# Altium integrated library Microchip Power Management Line Regulator.IntLib: 1174 symbols (part 11 of 31)
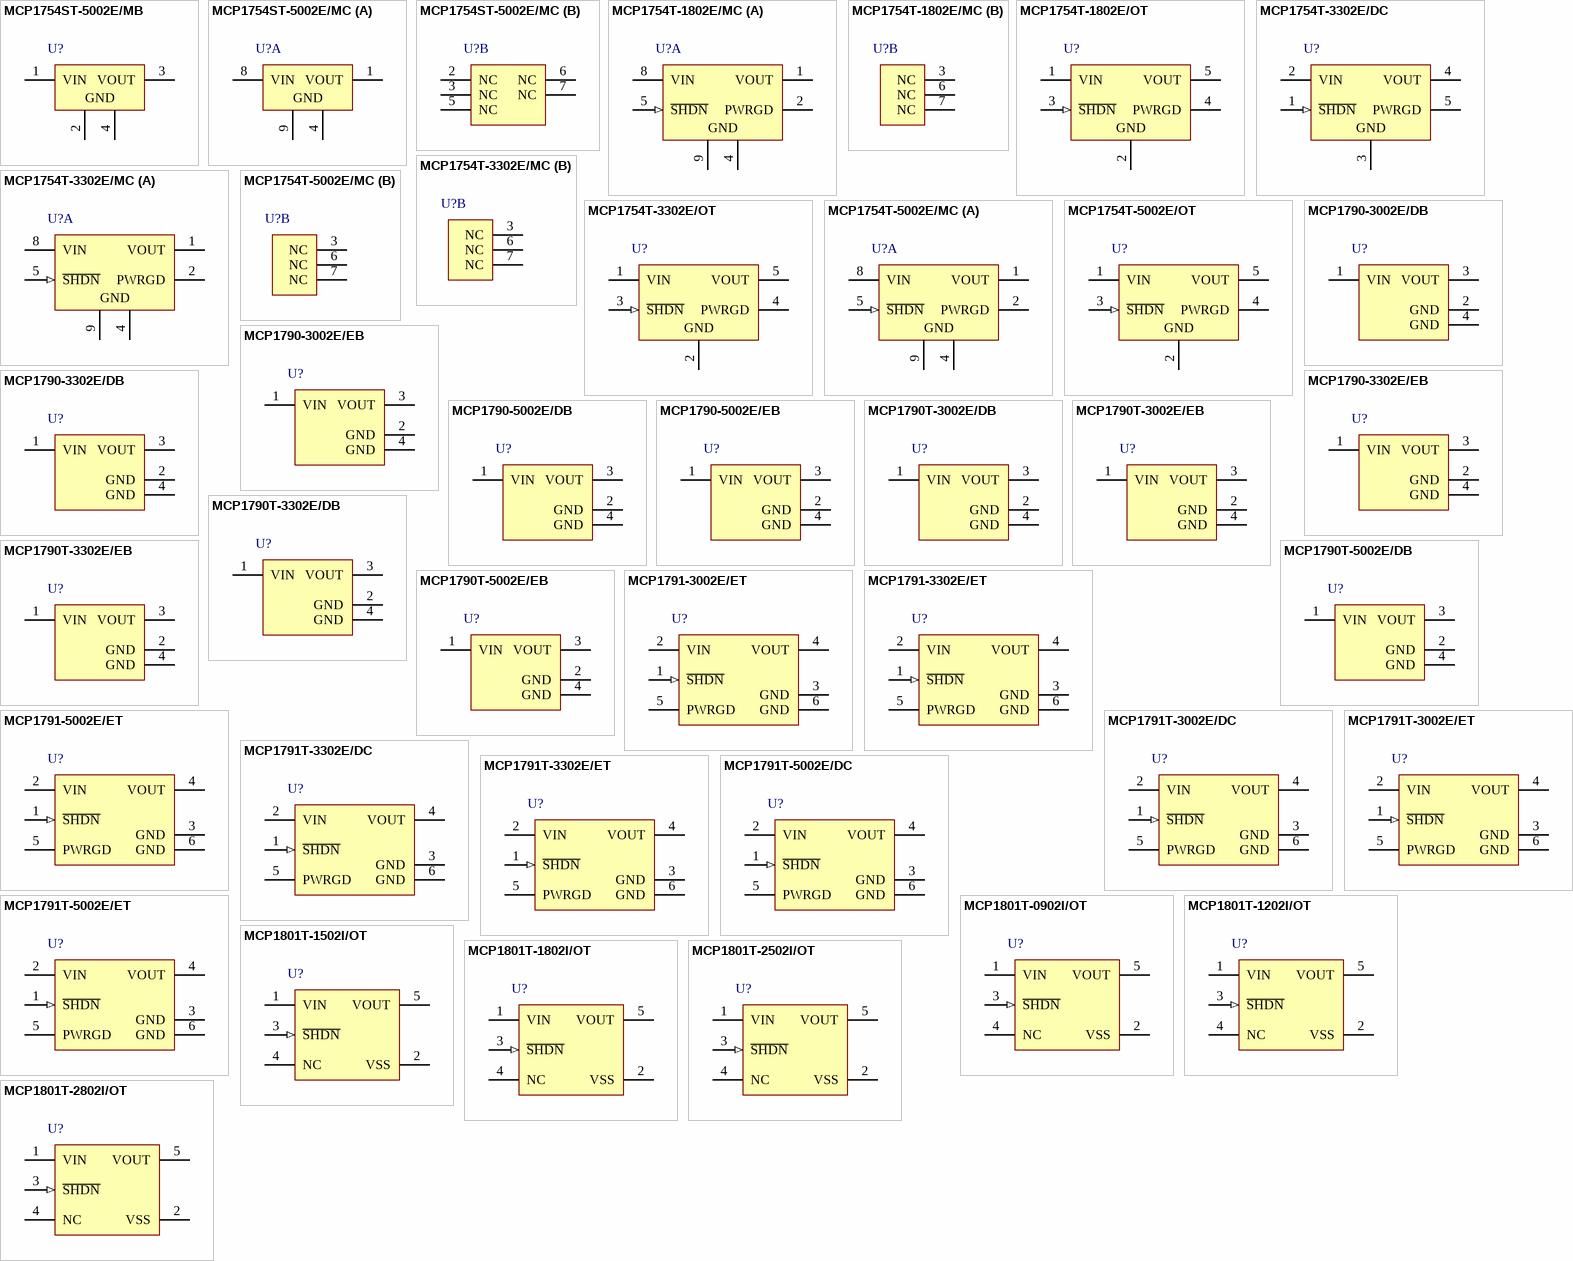
[diagram p40: symbols MCP1754ST-5002E/MB to MCP1801T-2802I/OT]

## MCP1801T-1202I/OT
designator U?
150 mA, High PSRR, Low Quiescent Current LDO, 5-Pin SOT-23, Industrial Temperature, Tape and Reel; Manufacturer: Microchip; PartNumber: MCP1801T-1202I/OT; DatasheetVersion: revC, Jan-2009; PackageVersion: revBB, Aug-2009; PackageReference: SOT-23-OT5; PackageDescription: 5-Lead Plastic Small Outline Transistor (OT) [SOT-23]; Supplier 1: Digi-Key; Supplier Part Number 1: MCP1801T-1202I/OTTR-ND; Supplier 2: Digi-Key; Supplier Part Number 2: MCP1801T-1202I/OTCT-ND; Supplier 3: Digi-Key; Supplier Part Number 3: MCP1801T-1202I/OTDKR-ND; Supplier 4: Farnell; Supplier Part Number 4: 1851980RL; Supplier 5: Farnell; Supplier Part Number 5: 1851980; Supplier 6: Newark; Supplier Part Number 6: 54M4826; Supplier 7: Newark; Supplier Part Number 7: 31T1332; Supplier 8: Mouser; Supplier Part Number 8: 579-MCP1801T-1202IOT; Mounting Technology: Surface Mount; Code_IPC: SOT23-5; ComponentLink1Description: Manufacturer URL; ComponentLink1URL: http://www.microchip.com/; ComponentLink2Description: Datasheet; ComponentLink2URL: http://ww1.microchip.com/downloads/en/DeviceDoc/22051c.pdf; ComponentLink3Description: Package Specification; ComponentLink3URL: http://www.microchip.com/stellent/groups/techpub_sg/documents/packagingspec/en012702.pdf
footprint SOT-23-OT5_N (SOT23, 5-Leads, Body 2.9x1.6mm, Pitch 0.95mm, Lead Span 2.7mm, IPC Medium Density)
footprint SOT-23-OT5_L (SOT23, 5-Leads, Body 2.9x1.6mm, Pitch 0.95mm, Lead Span 2.7mm, IPC High Density)
footprint SOT-23-OT5_M (SOT23, 5-Leads, Body 2.9x1.6mm, Pitch 0.95mm, Lead Span 2.7mm, IPC Low Density)
pins: 1 VIN (power), 2 VSS (power), 3 ~{SHDN} (in), 4 NC, 5 VOUT (power)

## MCP1801T-1502I/OT
designator U?
150 mA, High PSRR, Low Quiescent Current LDO, 5-Pin SOT-23, Industrial Temperature, Tape and Reel; Manufacturer: Microchip; PartNumber: MCP1801T-1502I/OT; DatasheetVersion: revC, Jan-2009; PackageVersion: revBB, Aug-2009; PackageReference: SOT-23-OT5; PackageDescription: 5-Lead Plastic Small Outline Transistor (OT) [SOT-23]; Mounting Technology: Surface Mount; Code_IPC: SOT23-5; ComponentLink1Description: Manufacturer URL; ComponentLink1URL: http://www.microchip.com/; ComponentLink2Description: Datasheet; ComponentLink2URL: http://ww1.microchip.com/downloads/en/DeviceDoc/22051c.pdf; ComponentLink3Description: Package Specification; ComponentLink3URL: http://www.microchip.com/stellent/groups/techpub_sg/documents/packagingspec/en012702.pdf
footprint SOT-23-OT5_N (SOT23, 5-Leads, Body 2.9x1.6mm, Pitch 0.95mm, Lead Span 2.7mm, IPC Medium Density)
footprint SOT-23-OT5_L (SOT23, 5-Leads, Body 2.9x1.6mm, Pitch 0.95mm, Lead Span 2.7mm, IPC High Density)
footprint SOT-23-OT5_M (SOT23, 5-Leads, Body 2.9x1.6mm, Pitch 0.95mm, Lead Span 2.7mm, IPC Low Density)
pins: 1 VIN (power), 2 VSS (power), 3 ~{SHDN} (in), 4 NC, 5 VOUT (power)

## MCP1801T-1802I/OT
designator U?
150 mA, High PSRR, Low Quiescent Current LDO, 5-Pin SOT-23, Industrial Temperature, Tape and Reel; Manufacturer: Microchip; PartNumber: MCP1801T-1802I/OT; DatasheetVersion: revC, Jan-2009; PackageVersion: revBB, Aug-2009; PackageReference: SOT-23-OT5; PackageDescription: 5-Lead Plastic Small Outline Transistor (OT) [SOT-23]; Supplier 1: Digi-Key; Supplier Part Number 1: MCP1801T-1802I/OTTR-ND; Supplier 2: Digi-Key; Supplier Part Number 2: MCP1801T-1802I/OTCT-ND; Supplier 3: Digi-Key; Supplier Part Number 3: MCP1801T-1802I/OTDKR-ND; Supplier 4: Farnell; Supplier Part Number 4: 1578368RL; Supplier 5: Farnell; Supplier Part Number 5: 1578368; Supplier 6: Newark; Supplier Part Number 6: 54M4827; Supplier 7: Mouser; Supplier Part Number 7: 579-MCP1801T-1802IOT; Mounting Technology: Surface Mount; Code_IPC: SOT23-5; ComponentLink1Description: Manufacturer URL; ComponentLink1URL: http://www.microchip.com/; ComponentLink2Description: Datasheet; ComponentLink2URL: http://ww1.microchip.com/downloads/en/DeviceDoc/22051c.pdf; ComponentLink3Description: Package Specification; ComponentLink3URL: http://www.microchip.com/stellent/groups/techpub_sg/documents/packagingspec/en012702.pdf
footprint SOT-23-OT5_N (SOT23, 5-Leads, Body 2.9x1.6mm, Pitch 0.95mm, Lead Span 2.7mm, IPC Medium Density)
footprint SOT-23-OT5_L (SOT23, 5-Leads, Body 2.9x1.6mm, Pitch 0.95mm, Lead Span 2.7mm, IPC High Density)
footprint SOT-23-OT5_M (SOT23, 5-Leads, Body 2.9x1.6mm, Pitch 0.95mm, Lead Span 2.7mm, IPC Low Density)
pins: 1 VIN (power), 2 VSS (power), 3 ~{SHDN} (in), 4 NC, 5 VOUT (power)

## MCP1801T-2502I/OT
designator U?
150 mA, High PSRR, Low Quiescent Current LDO, 5-Pin SOT-23, Industrial Temperature, Tape and Reel; Manufacturer: Microchip; PartNumber: MCP1801T-2502I/OT; DatasheetVersion: revC, Jan-2009; PackageVersion: revBB, Aug-2009; PackageReference: SOT-23-OT5; PackageDescription: 5-Lead Plastic Small Outline Transistor (OT) [SOT-23]; Supplier 1: Digi-Key; Supplier Part Number 1: MCP1801T-2502I/OTTR-ND; Supplier 2: Digi-Key; Supplier Part Number 2: MCP1801T-2502I/OTCT-ND; Supplier 3: Digi-Key; Supplier Part Number 3: MCP1801T-2502I/OTDKR-ND; Supplier 4: Farnell; Supplier Part Number 4: 1851981; Supplier 5: Newark; Supplier Part Number 5: 54M4828; Supplier 6: Newark; Supplier Part Number 6: 31T1333; Supplier 7: Mouser; Supplier Part Number 7: 579-MCP1801T-2502IOT; Mounting Technology: Surface Mount; Code_IPC: SOT23-5; ComponentLink1Description: Manufacturer URL; ComponentLink1URL: http://www.microchip.com/; ComponentLink2Description: Datasheet; ComponentLink2URL: http://ww1.microchip.com/downloads/en/DeviceDoc/22051c.pdf; ComponentLink3Description: Package Specification; ComponentLink3URL: http://www.microchip.com/stellent/groups/techpub_sg/documents/packagingspec/en012702.pdf
footprint SOT-23-OT5_N (SOT23, 5-Leads, Body 2.9x1.6mm, Pitch 0.95mm, Lead Span 2.7mm, IPC Medium Density)
footprint SOT-23-OT5_L (SOT23, 5-Leads, Body 2.9x1.6mm, Pitch 0.95mm, Lead Span 2.7mm, IPC High Density)
footprint SOT-23-OT5_M (SOT23, 5-Leads, Body 2.9x1.6mm, Pitch 0.95mm, Lead Span 2.7mm, IPC Low Density)
pins: 1 VIN (power), 2 VSS (power), 3 ~{SHDN} (in), 4 NC, 5 VOUT (power)

## MCP1801T-2802I/OT
designator U?
150 mA, High PSRR, Low Quiescent Current LDO, 5-Pin SOT-23, Industrial Temperature, Tape and Reel; Manufacturer: Microchip; PartNumber: MCP1801T-2802I/OT; DatasheetVersion: revC, Jan-2009; PackageVersion: revBB, Aug-2009; PackageReference: SOT-23-OT5; PackageDescription: 5-Lead Plastic Small Outline Transistor (OT) [SOT-23]; Mounting Technology: Surface Mount; Code_IPC: SOT23-5; ComponentLink1Description: Manufacturer URL; ComponentLink1URL: http://www.microchip.com/; ComponentLink2Description: Datasheet; ComponentLink2URL: http://ww1.microchip.com/downloads/en/DeviceDoc/22051c.pdf; ComponentLink3Description: Package Specification; ComponentLink3URL: http://www.microchip.com/stellent/groups/techpub_sg/documents/packagingspec/en012702.pdf
footprint SOT-23-OT5_N (SOT23, 5-Leads, Body 2.9x1.6mm, Pitch 0.95mm, Lead Span 2.7mm, IPC Medium Density)
footprint SOT-23-OT5_L (SOT23, 5-Leads, Body 2.9x1.6mm, Pitch 0.95mm, Lead Span 2.7mm, IPC High Density)
footprint SOT-23-OT5_M (SOT23, 5-Leads, Body 2.9x1.6mm, Pitch 0.95mm, Lead Span 2.7mm, IPC Low Density)
pins: 1 VIN (power), 2 VSS (power), 3 ~{SHDN} (in), 4 NC, 5 VOUT (power)

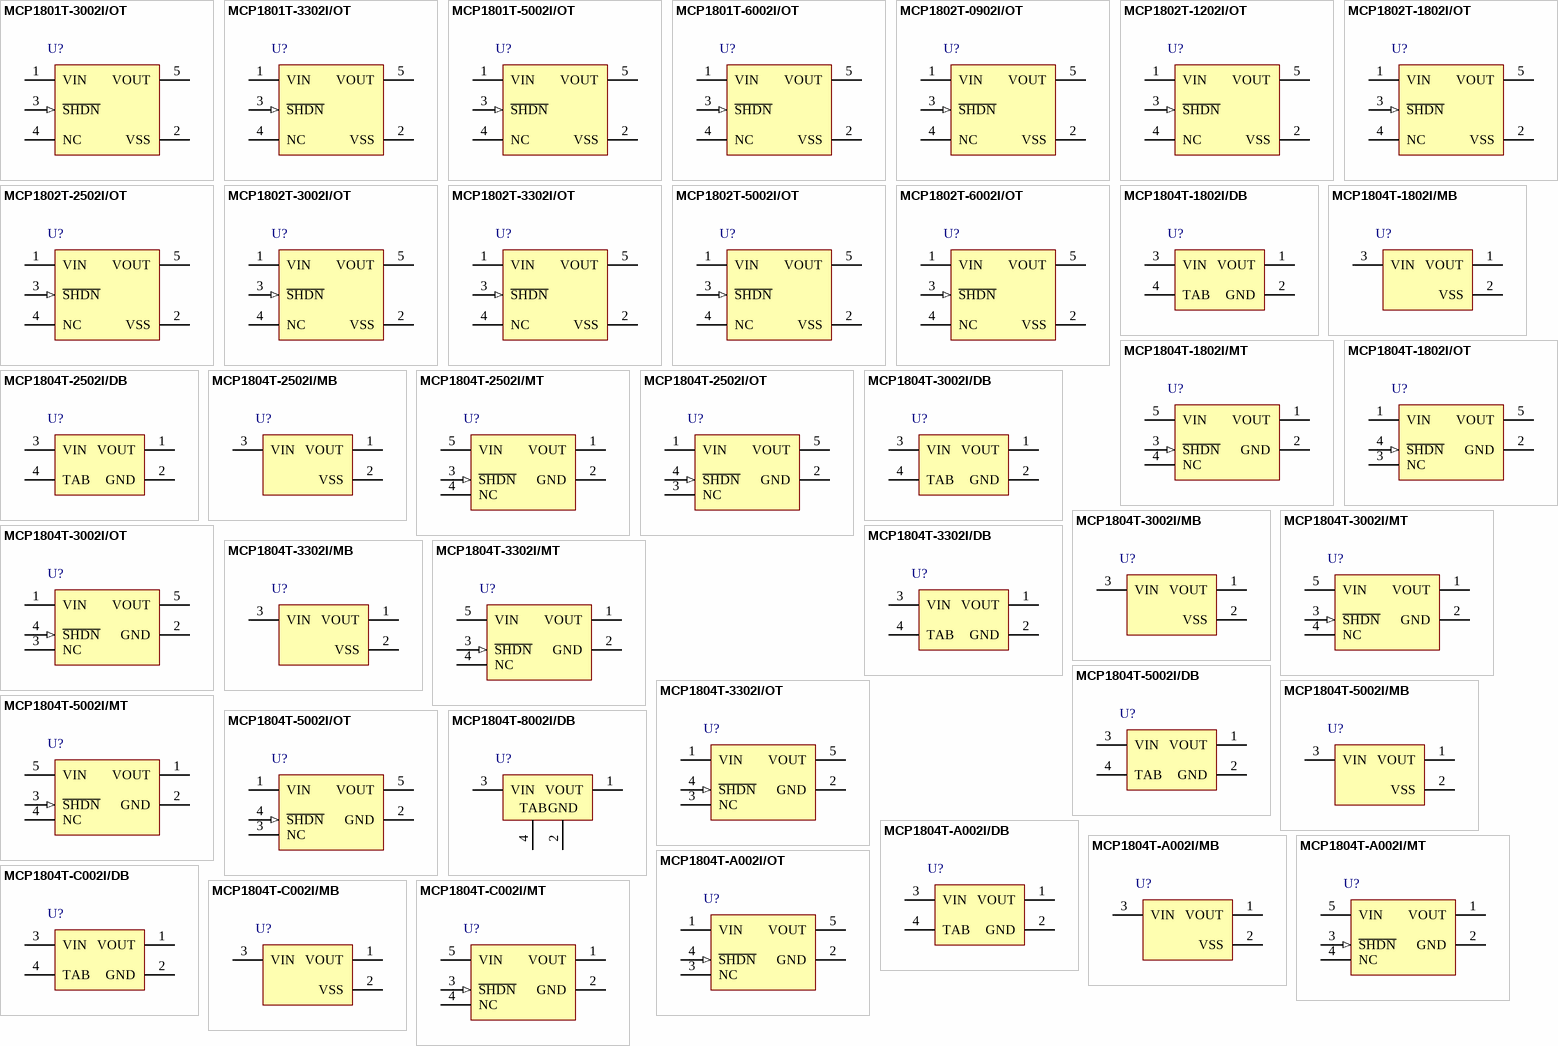
[diagram p10: symbols MCP1801T-3002I/OT to MCP1804T-C002I/MT]

## MCP1801T-3002I/OT
designator U?
150 mA, High PSRR, Low Quiescent Current LDO, 5-Pin SOT-23, Industrial Temperature, Tape and Reel; Manufacturer: Microchip; PartNumber: MCP1801T-3002I/OT; DatasheetVersion: revC, Jan-2009; PackageVersion: revBB, Aug-2009; PackageReference: SOT-23-OT5; PackageDescription: 5-Lead Plastic Small Outline Transistor (OT) [SOT-23]; Supplier 1: Digi-Key; Supplier Part Number 1: MCP1801T-3002I/OTTR-ND; Supplier 2: Digi-Key; Supplier Part Number 2: MCP1801T-3002I/OTCT-ND; Supplier 3: Digi-Key; Supplier Part Number 3: MCP1801T-3002I/OTDKR-ND; Supplier 4: Farnell; Supplier Part Number 4: 1578369; Supplier 5: Farnell; Supplier Part Number 5: 1578369RL; Supplier 6: Newark; Supplier Part Number 6: 54M4829; Supplier 7: Mouser; Supplier Part Number 7: 579-MCP1801T-3002IOT; Mounting Technology: Surface Mount; Code_IPC: SOT23-5; ComponentLink1Description: Manufacturer URL; ComponentLink1URL: http://www.microchip.com/; ComponentLink2Description: Datasheet; ComponentLink2URL: http://ww1.microchip.com/downloads/en/DeviceDoc/22051c.pdf; ComponentLink3Description: Package Specification; ComponentLink3URL: http://www.microchip.com/stellent/groups/techpub_sg/documents/packagingspec/en012702.pdf
footprint SOT-23-OT5_N (SOT23, 5-Leads, Body 2.9x1.6mm, Pitch 0.95mm, Lead Span 2.7mm, IPC Medium Density)
footprint SOT-23-OT5_L (SOT23, 5-Leads, Body 2.9x1.6mm, Pitch 0.95mm, Lead Span 2.7mm, IPC High Density)
footprint SOT-23-OT5_M (SOT23, 5-Leads, Body 2.9x1.6mm, Pitch 0.95mm, Lead Span 2.7mm, IPC Low Density)
pins: 1 VIN (power), 2 VSS (power), 3 ~{SHDN} (in), 4 NC, 5 VOUT (power)

## MCP1801T-3302I/OT
designator U?
150 mA, High PSRR, Low Quiescent Current LDO, 5-Pin SOT-23, Industrial Temperature, Tape and Reel; Manufacturer: Microchip; PartNumber: MCP1801T-3302I/OT; DatasheetVersion: revC, Jan-2009; PackageVersion: revBB, Aug-2009; PackageReference: SOT-23-OT5; PackageDescription: 5-Lead Plastic Small Outline Transistor (OT) [SOT-23]; Supplier 1: Digi-Key; Supplier Part Number 1: MCP1801T-3302I/OTTR-ND; Supplier 2: Digi-Key; Supplier Part Number 2: MCP1801T-3302I/OTCT-ND; Supplier 3: Digi-Key; Supplier Part Number 3: MCP1801T-3302I/OTDKR-ND; Supplier 4: Farnell; Supplier Part Number 4: 1578370; Supplier 5: Farnell; Supplier Part Number 5: 1578370RL; Supplier 6: Newark; Supplier Part Number 6: 54M4830; Supplier 7: Mouser; Supplier Part Number 7: 579-MCP1801T-3302IOT; Mounting Technology: Surface Mount; Code_IPC: SOT23-5; ComponentLink1Description: Manufacturer URL; ComponentLink1URL: http://www.microchip.com/; ComponentLink2Description: Datasheet; ComponentLink2URL: http://ww1.microchip.com/downloads/en/DeviceDoc/22051c.pdf; ComponentLink3Description: Package Specification; ComponentLink3URL: http://www.microchip.com/stellent/groups/techpub_sg/documents/packagingspec/en012702.pdf
footprint SOT-23-OT5_N (SOT23, 5-Leads, Body 2.9x1.6mm, Pitch 0.95mm, Lead Span 2.7mm, IPC Medium Density)
footprint SOT-23-OT5_L (SOT23, 5-Leads, Body 2.9x1.6mm, Pitch 0.95mm, Lead Span 2.7mm, IPC High Density)
footprint SOT-23-OT5_M (SOT23, 5-Leads, Body 2.9x1.6mm, Pitch 0.95mm, Lead Span 2.7mm, IPC Low Density)
pins: 1 VIN (power), 2 VSS (power), 3 ~{SHDN} (in), 4 NC, 5 VOUT (power)

## MCP1801T-5002I/OT
designator U?
150 mA, High PSRR, Low Quiescent Current LDO, 5-Pin SOT-23, Industrial Temperature, Tape and Reel; Manufacturer: Microchip; PartNumber: MCP1801T-5002I/OT; DatasheetVersion: revC, Jan-2009; PackageVersion: revBB, Aug-2009; PackageReference: SOT-23-OT5; PackageDescription: 5-Lead Plastic Small Outline Transistor (OT) [SOT-23]; Supplier 1: Digi-Key; Supplier Part Number 1: MCP1801T-5002I/OTTR-ND; Supplier 2: Digi-Key; Supplier Part Number 2: MCP1801T-5002I/OTCT-ND; Supplier 3: Digi-Key; Supplier Part Number 3: MCP1801T-5002I/OTDKR-ND; Supplier 4: Farnell; Supplier Part Number 4: 1578371; Supplier 5: Farnell; Supplier Part Number 5: 1578371RL; Supplier 6: Newark; Supplier Part Number 6: 54M4831; Supplier 7: Mouser; Supplier Part Number 7: 579-MCP1801T-5002IOT; Mounting Technology: Surface Mount; Code_IPC: SOT23-5; ComponentLink1Description: Manufacturer URL; ComponentLink1URL: http://www.microchip.com/; ComponentLink2Description: Datasheet; ComponentLink2URL: http://ww1.microchip.com/downloads/en/DeviceDoc/22051c.pdf; ComponentLink3Description: Package Specification; ComponentLink3URL: http://www.microchip.com/stellent/groups/techpub_sg/documents/packagingspec/en012702.pdf
footprint SOT-23-OT5_N (SOT23, 5-Leads, Body 2.9x1.6mm, Pitch 0.95mm, Lead Span 2.7mm, IPC Medium Density)
footprint SOT-23-OT5_L (SOT23, 5-Leads, Body 2.9x1.6mm, Pitch 0.95mm, Lead Span 2.7mm, IPC High Density)
footprint SOT-23-OT5_M (SOT23, 5-Leads, Body 2.9x1.6mm, Pitch 0.95mm, Lead Span 2.7mm, IPC Low Density)
pins: 1 VIN (power), 2 VSS (power), 3 ~{SHDN} (in), 4 NC, 5 VOUT (power)

## MCP1801T-6002I/OT
designator U?
150 mA, High PSRR, Low Quiescent Current LDO, 5-Pin SOT-23, Industrial Temperature, Tape and Reel; Manufacturer: Microchip; PartNumber: MCP1801T-6002I/OT; DatasheetVersion: revC, Jan-2009; PackageVersion: revBB, Aug-2009; PackageReference: SOT-23-OT5; PackageDescription: 5-Lead Plastic Small Outline Transistor (OT) [SOT-23]; Supplier 1: Digi-Key; Supplier Part Number 1: MCP1801T-6002I/OT-ND; Supplier 2: Newark; Supplier Part Number 2: 54M4832; Supplier 3: Mouser; Supplier Part Number 3: 579-MCP1801T-6002IOT; Mounting Technology: Surface Mount; Code_IPC: SOT23-5; ComponentLink1Description: Manufacturer URL; ComponentLink1URL: http://www.microchip.com/; ComponentLink2Description: Datasheet; ComponentLink2URL: http://ww1.microchip.com/downloads/en/DeviceDoc/22051c.pdf; ComponentLink3Description: Package Specification; ComponentLink3URL: http://www.microchip.com/stellent/groups/techpub_sg/documents/packagingspec/en012702.pdf
footprint SOT-23-OT5_N (SOT23, 5-Leads, Body 2.9x1.6mm, Pitch 0.95mm, Lead Span 2.7mm, IPC Medium Density)
footprint SOT-23-OT5_L (SOT23, 5-Leads, Body 2.9x1.6mm, Pitch 0.95mm, Lead Span 2.7mm, IPC High Density)
footprint SOT-23-OT5_M (SOT23, 5-Leads, Body 2.9x1.6mm, Pitch 0.95mm, Lead Span 2.7mm, IPC Low Density)
pins: 1 VIN (power), 2 VSS (power), 3 ~{SHDN} (in), 4 NC, 5 VOUT (power)

## MCP1802T-0902I/OT
designator U?
300 mA, High PSRR, Low Quiescent Current LDO, 5-Pin SOT-23, Industrial Temperature, Tape and Reel; Manufacturer: Microchip; PartNumber: MCP1802T-0902I/OT; DatasheetVersion: revB, Jan-2009; PackageVersion: revBB, Aug-2009; PackageReference: SOT-23-OT5; PackageDescription: 5-Lead Plastic Small Outline Transistor (OT) [SOT-23]; Supplier 1: Digi-Key; Supplier Part Number 1: MCP1802T-0902I/OT-ND; Supplier 2: Newark; Supplier Part Number 2: 54M4833; Supplier 3: Mouser; Supplier Part Number 3: 579-MCP1802T-0902IOT; Mounting Technology: Surface Mount; Code_IPC: SOT23-5; ComponentLink1Description: Manufacturer URL; ComponentLink1URL: http://www.microchip.com/; ComponentLink2Description: Datasheet; ComponentLink2URL: http://ww1.microchip.com/downloads/en/DeviceDoc/22053b.pdf; ComponentLink3Description: Package Specification; ComponentLink3URL: http://www.microchip.com/stellent/groups/techpub_sg/documents/packagingspec/en012702.pdf
footprint SOT-23-OT5_N (SOT23, 5-Leads, Body 2.9x1.6mm, Pitch 0.95mm, Lead Span 2.7mm, IPC Medium Density)
footprint SOT-23-OT5_L (SOT23, 5-Leads, Body 2.9x1.6mm, Pitch 0.95mm, Lead Span 2.7mm, IPC High Density)
footprint SOT-23-OT5_M (SOT23, 5-Leads, Body 2.9x1.6mm, Pitch 0.95mm, Lead Span 2.7mm, IPC Low Density)
pins: 1 VIN (power), 2 VSS (power), 3 ~{SHDN} (in), 4 NC, 5 VOUT (power)

## MCP1802T-1202I/OT
designator U?
300 mA, High PSRR, Low Quiescent Current LDO, 5-Pin SOT-23, Industrial Temperature, Tape and Reel; Manufacturer: Microchip; PartNumber: MCP1802T-1202I/OT; DatasheetVersion: revB, Jan-2009; PackageVersion: revBB, Aug-2009; PackageReference: SOT-23-OT5; PackageDescription: 5-Lead Plastic Small Outline Transistor (OT) [SOT-23]; Supplier 1: Digi-Key; Supplier Part Number 1: MCP1802T-1202I/OTTR-ND; Supplier 2: Digi-Key; Supplier Part Number 2: MCP1802T-1202I/OTCT-ND; Supplier 3: Digi-Key; Supplier Part Number 3: MCP1802T-1202I/OTDKR-ND; Supplier 4: Farnell; Supplier Part Number 4: 1851982; Supplier 5: Farnell; Supplier Part Number 5: 1851982RL; Supplier 6: Newark; Supplier Part Number 6: 54M4834; Supplier 7: Newark; Supplier Part Number 7: 31T1334; Supplier 8: Mouser; Supplier Part Number 8: 579-MCP1802T-1202IOT; Mounting Technology: Surface Mount; Code_IPC: SOT23-5; ComponentLink1Description: Manufacturer URL; ComponentLink1URL: http://www.microchip.com/; ComponentLink2Description: Datasheet; ComponentLink2URL: http://ww1.microchip.com/downloads/en/DeviceDoc/22053b.pdf; ComponentLink3Description: Package Specification; ComponentLink3URL: http://www.microchip.com/stellent/groups/techpub_sg/documents/packagingspec/en012702.pdf
footprint SOT-23-OT5_N (SOT23, 5-Leads, Body 2.9x1.6mm, Pitch 0.95mm, Lead Span 2.7mm, IPC Medium Density)
footprint SOT-23-OT5_L (SOT23, 5-Leads, Body 2.9x1.6mm, Pitch 0.95mm, Lead Span 2.7mm, IPC High Density)
footprint SOT-23-OT5_M (SOT23, 5-Leads, Body 2.9x1.6mm, Pitch 0.95mm, Lead Span 2.7mm, IPC Low Density)
pins: 1 VIN (power), 2 VSS (power), 3 ~{SHDN} (in), 4 NC, 5 VOUT (power)

## MCP1802T-1802I/OT
designator U?
300 mA, High PSRR, Low Quiescent Current LDO, 5-Pin SOT-23, Industrial Temperature, Tape and Reel; Manufacturer: Microchip; PartNumber: MCP1802T-1802I/OT; DatasheetVersion: revB, Jan-2009; PackageVersion: revBB, Aug-2009; PackageReference: SOT-23-OT5; PackageDescription: 5-Lead Plastic Small Outline Transistor (OT) [SOT-23]; Supplier 1: Digi-Key; Supplier Part Number 1: MCP1802T-1802I/OTTR-ND; Supplier 2: Digi-Key; Supplier Part Number 2: MCP1802T-1802I/OTCT-ND; Supplier 3: Digi-Key; Supplier Part Number 3: MCP1802T-1802I/OTDKR-ND; Supplier 4: Farnell; Supplier Part Number 4: 1675425RL; Supplier 5: Newark; Supplier Part Number 5: 54M4835; Supplier 6: Mouser; Supplier Part Number 6: 579-MCP1802T-1802IOT; Mounting Technology: Surface Mount; Code_IPC: SOT23-5; ComponentLink1Description: Manufacturer URL; ComponentLink1URL: http://www.microchip.com/; ComponentLink2Description: Datasheet; ComponentLink2URL: http://ww1.microchip.com/downloads/en/DeviceDoc/22053b.pdf; ComponentLink3Description: Package Specification; ComponentLink3URL: http://www.microchip.com/stellent/groups/techpub_sg/documents/packagingspec/en012702.pdf
footprint SOT-23-OT5_N (SOT23, 5-Leads, Body 2.9x1.6mm, Pitch 0.95mm, Lead Span 2.7mm, IPC Medium Density)
footprint SOT-23-OT5_L (SOT23, 5-Leads, Body 2.9x1.6mm, Pitch 0.95mm, Lead Span 2.7mm, IPC High Density)
footprint SOT-23-OT5_M (SOT23, 5-Leads, Body 2.9x1.6mm, Pitch 0.95mm, Lead Span 2.7mm, IPC Low Density)
pins: 1 VIN (power), 2 VSS (power), 3 ~{SHDN} (in), 4 NC, 5 VOUT (power)

## MCP1802T-2502I/OT
designator U?
300 mA, High PSRR, Low Quiescent Current LDO, 5-Pin SOT-23, Industrial Temperature, Tape and Reel; Manufacturer: Microchip; PartNumber: MCP1802T-2502I/OT; DatasheetVersion: revB, Jan-2009; PackageVersion: revBB, Aug-2009; PackageReference: SOT-23-OT5; PackageDescription: 5-Lead Plastic Small Outline Transistor (OT) [SOT-23]; Supplier 1: Digi-Key; Supplier Part Number 1: MCP1802T-2502I/OTTR-ND; Supplier 2: Digi-Key; Supplier Part Number 2: MCP1802T-2502I/OTCT-ND; Supplier 3: Digi-Key; Supplier Part Number 3: MCP1802T-2502I/OTDKR-ND; Supplier 4: Farnell; Supplier Part Number 4: 1851983; Supplier 5: Farnell; Supplier Part Number 5: 1851983RL; Supplier 6: Newark; Supplier Part Number 6: 54M4836; Supplier 7: Newark; Supplier Part Number 7: 31T1335; Supplier 8: Mouser; Supplier Part Number 8: 579-MCP1802T-2502IOT; Mounting Technology: Surface Mount; Code_IPC: SOT23-5; ComponentLink1Description: Manufacturer URL; ComponentLink1URL: http://www.microchip.com/; ComponentLink2Description: Datasheet; ComponentLink2URL: http://ww1.microchip.com/downloads/en/DeviceDoc/22053b.pdf; ComponentLink3Description: Package Specification; ComponentLink3URL: http://www.microchip.com/stellent/groups/techpub_sg/documents/packagingspec/en012702.pdf
footprint SOT-23-OT5_N (SOT23, 5-Leads, Body 2.9x1.6mm, Pitch 0.95mm, Lead Span 2.7mm, IPC Medium Density)
footprint SOT-23-OT5_L (SOT23, 5-Leads, Body 2.9x1.6mm, Pitch 0.95mm, Lead Span 2.7mm, IPC High Density)
footprint SOT-23-OT5_M (SOT23, 5-Leads, Body 2.9x1.6mm, Pitch 0.95mm, Lead Span 2.7mm, IPC Low Density)
pins: 1 VIN (power), 2 VSS (power), 3 ~{SHDN} (in), 4 NC, 5 VOUT (power)

## MCP1802T-3002I/OT
designator U?
300 mA, High PSRR, Low Quiescent Current LDO, 5-Pin SOT-23, Industrial Temperature, Tape and Reel; Manufacturer: Microchip; PartNumber: MCP1802T-3002I/OT; DatasheetVersion: revB, Jan-2009; PackageVersion: revBB, Aug-2009; PackageReference: SOT-23-OT5; PackageDescription: 5-Lead Plastic Small Outline Transistor (OT) [SOT-23]; Supplier 1: Digi-Key; Supplier Part Number 1: MCP1802T-3002I/OTTR-ND; Supplier 2: Digi-Key; Supplier Part Number 2: MCP1802T-3002I/OTCT-ND; Supplier 3: Digi-Key; Supplier Part Number 3: MCP1802T-3002I/OTDKR-ND; Supplier 4: Farnell; Supplier Part Number 4: 1578373; Supplier 5: Farnell; Supplier Part Number 5: 1578373RL; Supplier 6: Newark; Supplier Part Number 6: 54M4837; Supplier 7: Mouser; Supplier Part Number 7: 579-MCP1802T-3002IOT; Mounting Technology: Surface Mount; Code_IPC: SOT23-5; ComponentLink1Description: Manufacturer URL; ComponentLink1URL: http://www.microchip.com/; ComponentLink2Description: Datasheet; ComponentLink2URL: http://ww1.microchip.com/downloads/en/DeviceDoc/22053b.pdf; ComponentLink3Description: Package Specification; ComponentLink3URL: http://www.microchip.com/stellent/groups/techpub_sg/documents/packagingspec/en012702.pdf
footprint SOT-23-OT5_N (SOT23, 5-Leads, Body 2.9x1.6mm, Pitch 0.95mm, Lead Span 2.7mm, IPC Medium Density)
footprint SOT-23-OT5_L (SOT23, 5-Leads, Body 2.9x1.6mm, Pitch 0.95mm, Lead Span 2.7mm, IPC High Density)
footprint SOT-23-OT5_M (SOT23, 5-Leads, Body 2.9x1.6mm, Pitch 0.95mm, Lead Span 2.7mm, IPC Low Density)
pins: 1 VIN (power), 2 VSS (power), 3 ~{SHDN} (in), 4 NC, 5 VOUT (power)

## MCP1802T-3302I/OT
designator U?
300 mA, High PSRR, Low Quiescent Current LDO, 5-Pin SOT-23, Industrial Temperature, Tape and Reel; Manufacturer: Microchip; PartNumber: MCP1802T-3302I/OT; DatasheetVersion: revB, Jan-2009; PackageVersion: revBB, Aug-2009; PackageReference: SOT-23-OT5; PackageDescription: 5-Lead Plastic Small Outline Transistor (OT) [SOT-23]; Supplier 1: Digi-Key; Supplier Part Number 1: MCP1802T-3302I/OTTR-ND; Supplier 2: Digi-Key; Supplier Part Number 2: MCP1802T-3302I/OTCT-ND; Supplier 3: Digi-Key; Supplier Part Number 3: MCP1802T-3302I/OTDKR-ND; Supplier 4: Newark; Supplier Part Number 4: 54M4838; Supplier 5: Mouser; Supplier Part Number 5: 579-MCP1802T-3302IOT; Mounting Technology: Surface Mount; Code_IPC: SOT23-5; ComponentLink1Description: Manufacturer URL; ComponentLink1URL: http://www.microchip.com/; ComponentLink2Description: Datasheet; ComponentLink2URL: http://ww1.microchip.com/downloads/en/DeviceDoc/22053b.pdf; ComponentLink3Description: Package Specification; ComponentLink3URL: http://www.microchip.com/stellent/groups/techpub_sg/documents/packagingspec/en012702.pdf
footprint SOT-23-OT5_N (SOT23, 5-Leads, Body 2.9x1.6mm, Pitch 0.95mm, Lead Span 2.7mm, IPC Medium Density)
footprint SOT-23-OT5_L (SOT23, 5-Leads, Body 2.9x1.6mm, Pitch 0.95mm, Lead Span 2.7mm, IPC High Density)
footprint SOT-23-OT5_M (SOT23, 5-Leads, Body 2.9x1.6mm, Pitch 0.95mm, Lead Span 2.7mm, IPC Low Density)
pins: 1 VIN (power), 2 VSS (power), 3 ~{SHDN} (in), 4 NC, 5 VOUT (power)

## MCP1802T-5002I/OT
designator U?
300 mA, High PSRR, Low Quiescent Current LDO, 5-Pin SOT-23, Industrial Temperature, Tape and Reel; Manufacturer: Microchip; PartNumber: MCP1802T-5002I/OT; DatasheetVersion: revB, Jan-2009; PackageVersion: revBB, Aug-2009; PackageReference: SOT-23-OT5; PackageDescription: 5-Lead Plastic Small Outline Transistor (OT) [SOT-23]; Supplier 1: Digi-Key; Supplier Part Number 1: MCP1802T-5002I/OTTR-ND; Supplier 2: Digi-Key; Supplier Part Number 2: MCP1802T-5002I/OTCT-ND; Supplier 3: Digi-Key; Supplier Part Number 3: MCP1802T-5002I/OTDKR-ND; Supplier 4: Farnell; Supplier Part Number 4: 1578372; Supplier 5: Farnell; Supplier Part Number 5: 1578372RL; Supplier 6: Newark; Supplier Part Number 6: 54M4839; Supplier 7: Mouser; Supplier Part Number 7: 579-MCP1802T-5002IOT; Mounting Technology: Surface Mount; Code_IPC: SOT23-5; ComponentLink1Description: Manufacturer URL; ComponentLink1URL: http://www.microchip.com/; ComponentLink2Description: Datasheet; ComponentLink2URL: http://ww1.microchip.com/downloads/en/DeviceDoc/22053b.pdf; ComponentLink3Description: Package Specification; ComponentLink3URL: http://www.microchip.com/stellent/groups/techpub_sg/documents/packagingspec/en012702.pdf
footprint SOT-23-OT5_N (SOT23, 5-Leads, Body 2.9x1.6mm, Pitch 0.95mm, Lead Span 2.7mm, IPC Medium Density)
footprint SOT-23-OT5_L (SOT23, 5-Leads, Body 2.9x1.6mm, Pitch 0.95mm, Lead Span 2.7mm, IPC High Density)
footprint SOT-23-OT5_M (SOT23, 5-Leads, Body 2.9x1.6mm, Pitch 0.95mm, Lead Span 2.7mm, IPC Low Density)
pins: 1 VIN (power), 2 VSS (power), 3 ~{SHDN} (in), 4 NC, 5 VOUT (power)

## MCP1802T-6002I/OT
designator U?
300 mA, High PSRR, Low Quiescent Current LDO, 5-Pin SOT-23, Industrial Temperature, Tape and Reel; Manufacturer: Microchip; PartNumber: MCP1802T-6002I/OT; DatasheetVersion: revB, Jan-2009; PackageVersion: revBB, Aug-2009; PackageReference: SOT-23-OT5; PackageDescription: 5-Lead Plastic Small Outline Transistor (OT) [SOT-23]; Supplier 1: Digi-Key; Supplier Part Number 1: MCP1802T-6002I/OT-ND; Supplier 2: Newark; Supplier Part Number 2: 54M4840; Supplier 3: Mouser; Supplier Part Number 3: 579-MCP1802T-6002IOT; Mounting Technology: Surface Mount; Code_IPC: SOT23-5; ComponentLink1Description: Manufacturer URL; ComponentLink1URL: http://www.microchip.com/; ComponentLink2Description: Datasheet; ComponentLink2URL: http://ww1.microchip.com/downloads/en/DeviceDoc/22053b.pdf; ComponentLink3Description: Package Specification; ComponentLink3URL: http://www.microchip.com/stellent/groups/techpub_sg/documents/packagingspec/en012702.pdf
footprint SOT-23-OT5_N (SOT23, 5-Leads, Body 2.9x1.6mm, Pitch 0.95mm, Lead Span 2.7mm, IPC Medium Density)
footprint SOT-23-OT5_L (SOT23, 5-Leads, Body 2.9x1.6mm, Pitch 0.95mm, Lead Span 2.7mm, IPC High Density)
footprint SOT-23-OT5_M (SOT23, 5-Leads, Body 2.9x1.6mm, Pitch 0.95mm, Lead Span 2.7mm, IPC Low Density)
pins: 1 VIN (power), 2 VSS (power), 3 ~{SHDN} (in), 4 NC, 5 VOUT (power)

## MCP1804T-1802I/DB
designator U?
150 mA, 28V LDO Regulator With Shutdown, 3-Pin SOT-223, Industrial Temperature, Tape and Reel; Manufacturer: Microchip; PartNumber: MCP1804T-1802I/DB; DatasheetVersion: revB, Nov-2009; PackageVersion: revBB, Aug-2009; PackageReference: SOT-223-DB3; PackageDescription: 3-Lead Plastic Small Outline Transistor (DB) [SOT-223]; Supplier 1: Digi-Key; Supplier Part Number 1: MCP1804T-1802I/DBTR-ND; Supplier 2: Digi-Key; Supplier Part Number 2: MCP1804T-1802I/DBCT-ND; Supplier 3: Digi-Key; Supplier Part Number 3: MCP1804T-1802I/DBDKR-ND; Supplier 4: Newark; Supplier Part Number 4: 52R9923; Supplier 5: Mouser; Supplier Part Number 5: 579-MCP1804T-1802IDB; Mounting Technology: Surface Mount; ComponentLink1Description: Manufacturer URL; ComponentLink1URL: http://www.microchip.com/; ComponentLink2Description: Datasheet; ComponentLink2URL: http://ww1.microchip.com/downloads/en/DeviceDoc/22200b.pdf; ComponentLink3Description: Package Specification; ComponentLink3URL: http://www.microchip.com/stellent/groups/techpub_sg/documents/packagingspec/en012702.pdf
footprint SOT-223-DB3_N (SOT223, 4-Leads, Body 6.5x3.5mm, Pitch 2.3mm, Lead Span 7mm, IPC Medium Density)
footprint SOT-223-DB3_L (SOT223, 4-Leads, Body 6.5x3.5mm, Pitch 2.3mm, Lead Span 7mm, IPC High Density)
footprint SOT-223-DB3_M (SOT223, 4-Leads, Body 6.5x3.5mm, Pitch 2.3mm, Lead Span 7mm, IPC Low Density)
pins: 1 VOUT (power), 2 GND (power), 3 VIN (power), 4 TAB (power)

## MCP1804T-1802I/MB
designator U?
150 mA, 28V LDO Regulator With Shutdown, 3-Pin SOT-89, Industrial Temperature, Tape and Reel; Manufacturer: Microchip; PartNumber: MCP1804T-1802I/MB; DatasheetVersion: revB, Nov-2009; PackageVersion: revBB, Aug-2009; PackageReference: SOT-89-MB3; PackageDescription: 3-Lead Plastic Small Outline Transistor Header (MB) [SOT-89]; Supplier 1: Digi-Key; Supplier Part Number 1: MCP1804T-1802I/MBTR-ND; Supplier 2: Digi-Key; Supplier Part Number 2: MCP1804T-1802I/MBCT-ND; Supplier 3: Digi-Key; Supplier Part Number 3: MCP1804T-1802I/MBDKR-ND; Supplier 4: Newark; Supplier Part Number 4: 52R9924; Supplier 5: Mouser; Supplier Part Number 5: 579-MCP1804T-1802IMB; Mounting Technology: Surface Mount; Code_IPC: SOT89; ComponentLink1Description: Manufacturer URL; ComponentLink1URL: http://www.microchip.com/; ComponentLink2Description: Datasheet; ComponentLink2URL: http://ww1.microchip.com/downloads/en/DeviceDoc/22200b.pdf; ComponentLink3Description: Package Specification; ComponentLink3URL: http://www.microchip.com/stellent/groups/techpub_sg/documents/packagingspec/en012702.pdf
footprint SOT-89-MB3_N (SOT89, 3-Leads, Body 4.5x2.4 mm, Pitch 1.5mm, Lead Span 4.1mm, IPC Medium Density)
footprint SOT-89-MB3_L (SOT89, 3-Leads, Body 4.5x2.4 mm, Pitch 1.5mm, Lead Span 4.1mm, IPC High Density)
footprint SOT-89-MB3_M (SOT89, 3-Leads, Body 4.5x2.4 mm, Pitch 1.5mm, Lead Span 4.1mm, IPC Low Density)
pins: 1 VOUT (power), 2 VSS (power), 3 VIN (power)

## MCP1804T-1802I/MT
designator U?
150 mA, 28V LDO Regulator With Shutdown, 5-Pin SOT-89, Industrial Temperature, Tape and Reel; Manufacturer: Microchip; PartNumber: MCP1804T-1802I/MT; DatasheetVersion: revB, Nov-2009; PackageVersion: revBB, Aug-2009; PackageReference: SOT-89-MT5; PackageDescription: 5-Lead Plastic Small Outline Transistor Header (MT) [SOT-89]; Supplier 1: Digi-Key; Supplier Part Number 1: MCP1804T-1802I/MTTR-ND; Supplier 2: Digi-Key; Supplier Part Number 2: MCP1804T-1802I/MTCT-ND; Supplier 3: Digi-Key; Supplier Part Number 3: MCP1804T-1802I/MTDKR-ND; Supplier 4: Mouser; Supplier Part Number 4: 579-MCP1804T-1802IMT; Mounting Technology: Surface Mount; ComponentLink1Description: Manufacturer URL; ComponentLink1URL: http://www.microchip.com/; ComponentLink2Description: Datasheet; ComponentLink2URL: http://ww1.microchip.com/downloads/en/DeviceDoc/22200b.pdf; ComponentLink3Description: Package Specification; ComponentLink3URL: http://www.microchip.com/stellent/groups/techpub_sg/documents/packagingspec/en012702.pdf
footprint SOT-89-MT5_N (SOT89, 5-Leads, Body 4.5x2.4 mm, Pitch 1.5mm, Lead Span 4.2mm, IPC Medium Density)
footprint SOT-89-MT5_L (SOT89, 5-Leads, Body 4.5x2.4 mm, Pitch 1.5mm, Lead Span 4.2mm, IPC High Density)
footprint SOT-89-MT5_M (SOT89, 5-Leads, Body 4.5x2.4 mm, Pitch 1.5mm, Lead Span 4.2mm, IPC Low Density)
pins: 1 VOUT (power), 2 GND (power), 3 ~{SHDN} (in), 4 NC, 5 VIN (power)

## MCP1804T-1802I/OT
designator U?
150 mA, 28V LDO Regulator With Shutdown, 5-Pin SOT-23, Industrial Temperature, Tape and Reel; Manufacturer: Microchip; PartNumber: MCP1804T-1802I/OT; DatasheetVersion: revB, Nov-2009; PackageVersion: revBB, Aug-2009; PackageReference: SOT-23-OT5; PackageDescription: 5-Lead Plastic Small Outline Transistor (OT) [SOT-23]; Supplier 1: Digi-Key; Supplier Part Number 1: MCP1804T-1802I/OTTR-ND; Supplier 2: Digi-Key; Supplier Part Number 2: MCP1804T-1802I/OTCT-ND; Supplier 3: Digi-Key; Supplier Part Number 3: MCP1804T-1802I/OTDKR-ND; Supplier 4: Farnell; Supplier Part Number 4: 1825003; Supplier 5: Newark; Supplier Part Number 5: 55R1044; Supplier 6: Mouser; Supplier Part Number 6: 579-MCP1804T-1802IOT; Mounting Technology: Surface Mount; Code_IPC: SOT23-5; ComponentLink1Description: Manufacturer URL; ComponentLink1URL: http://www.microchip.com/; ComponentLink2Description: Datasheet; ComponentLink2URL: http://ww1.microchip.com/downloads/en/DeviceDoc/22200b.pdf; ComponentLink3Description: Package Specification; ComponentLink3URL: http://www.microchip.com/stellent/groups/techpub_sg/documents/packagingspec/en012702.pdf
footprint SOT-23-OT5_N (SOT23, 5-Leads, Body 2.9x1.6mm, Pitch 0.95mm, Lead Span 2.7mm, IPC Medium Density)
footprint SOT-23-OT5_L (SOT23, 5-Leads, Body 2.9x1.6mm, Pitch 0.95mm, Lead Span 2.7mm, IPC High Density)
footprint SOT-23-OT5_M (SOT23, 5-Leads, Body 2.9x1.6mm, Pitch 0.95mm, Lead Span 2.7mm, IPC Low Density)
pins: 1 VIN (power), 2 GND (power), 3 NC, 4 ~{SHDN} (in), 5 VOUT (power)

## MCP1804T-2502I/DB
designator U?
150 mA, 28V LDO Regulator With Shutdown, 3-Pin SOT-223, Industrial Temperature, Tape and Reel; Manufacturer: Microchip; PartNumber: MCP1804T-2502I/DB; DatasheetVersion: revB, Nov-2009; PackageVersion: revBB, Aug-2009; PackageReference: SOT-223-DB3; PackageDescription: 3-Lead Plastic Small Outline Transistor (DB) [SOT-223]; Supplier 1: Digi-Key; Supplier Part Number 1: MCP1804T-2502I/DBTR-ND; Supplier 2: Digi-Key; Supplier Part Number 2: MCP1804T-2502I/DBCT-ND; Supplier 3: Digi-Key; Supplier Part Number 3: MCP1804T-2502I/DBDKR-ND; Supplier 4: Mouser; Supplier Part Number 4: 579-MCP1804T-2502IDB; Mounting Technology: Surface Mount; ComponentLink1Description: Manufacturer URL; ComponentLink1URL: http://www.microchip.com/; ComponentLink2Description: Datasheet; ComponentLink2URL: http://ww1.microchip.com/downloads/en/DeviceDoc/22200b.pdf; ComponentLink3Description: Package Specification; ComponentLink3URL: http://www.microchip.com/stellent/groups/techpub_sg/documents/packagingspec/en012702.pdf
footprint SOT-223-DB3_N (SOT223, 4-Leads, Body 6.5x3.5mm, Pitch 2.3mm, Lead Span 7mm, IPC Medium Density)
footprint SOT-223-DB3_L (SOT223, 4-Leads, Body 6.5x3.5mm, Pitch 2.3mm, Lead Span 7mm, IPC High Density)
footprint SOT-223-DB3_M (SOT223, 4-Leads, Body 6.5x3.5mm, Pitch 2.3mm, Lead Span 7mm, IPC Low Density)
pins: 1 VOUT (power), 2 GND (power), 3 VIN (power), 4 TAB (power)

## MCP1804T-2502I/MB
designator U?
150 mA, 28V LDO Regulator With Shutdown, 3-Pin SOT-89, Industrial Temperature, Tape and Reel; Manufacturer: Microchip; PartNumber: MCP1804T-2502I/MB; DatasheetVersion: revB, Nov-2009; PackageVersion: revBB, Aug-2009; PackageReference: SOT-89-MB3; PackageDescription: 3-Lead Plastic Small Outline Transistor Header (MB) [SOT-89]; Supplier 1: Digi-Key; Supplier Part Number 1: MCP1804T-2502I/MBTR-ND; Supplier 2: Digi-Key; Supplier Part Number 2: MCP1804T-2502I/MBCT-ND; Supplier 3: Digi-Key; Supplier Part Number 3: MCP1804T-2502I/MBDKR-ND; Supplier 4: Mouser; Supplier Part Number 4: 579-MCP1804T-2502IMB; Mounting Technology: Surface Mount; Code_IPC: SOT89; ComponentLink1Description: Manufacturer URL; ComponentLink1URL: http://www.microchip.com/; ComponentLink2Description: Datasheet; ComponentLink2URL: http://ww1.microchip.com/downloads/en/DeviceDoc/22200b.pdf; ComponentLink3Description: Package Specification; ComponentLink3URL: http://www.microchip.com/stellent/groups/techpub_sg/documents/packagingspec/en012702.pdf
footprint SOT-89-MB3_N (SOT89, 3-Leads, Body 4.5x2.4 mm, Pitch 1.5mm, Lead Span 4.1mm, IPC Medium Density)
footprint SOT-89-MB3_L (SOT89, 3-Leads, Body 4.5x2.4 mm, Pitch 1.5mm, Lead Span 4.1mm, IPC High Density)
footprint SOT-89-MB3_M (SOT89, 3-Leads, Body 4.5x2.4 mm, Pitch 1.5mm, Lead Span 4.1mm, IPC Low Density)
pins: 1 VOUT (power), 2 VSS (power), 3 VIN (power)

## MCP1804T-2502I/MT
designator U?
150 mA, 28V LDO Regulator With Shutdown, 5-Pin SOT-89, Industrial Temperature, Tape and Reel; Manufacturer: Microchip; PartNumber: MCP1804T-2502I/MT; DatasheetVersion: revB, Nov-2009; PackageVersion: revBB, Aug-2009; PackageReference: SOT-89-MT5; PackageDescription: 5-Lead Plastic Small Outline Transistor Header (MT) [SOT-89]; Supplier 1: Digi-Key; Supplier Part Number 1: MCP1804T-2502I/MTTR-ND; Supplier 2: Digi-Key; Supplier Part Number 2: MCP1804T-2502I/MTCT-ND; Supplier 3: Digi-Key; Supplier Part Number 3: MCP1804T-2502I/MTDKR-ND; Supplier 4: Mouser; Supplier Part Number 4: 579-MCP1804T-2502IMT; Mounting Technology: Surface Mount; ComponentLink1Description: Manufacturer URL; ComponentLink1URL: http://www.microchip.com/; ComponentLink2Description: Datasheet; ComponentLink2URL: http://ww1.microchip.com/downloads/en/DeviceDoc/22200b.pdf; ComponentLink3Description: Package Specification; ComponentLink3URL: http://www.microchip.com/stellent/groups/techpub_sg/documents/packagingspec/en012702.pdf
footprint SOT-89-MT5_N (SOT89, 5-Leads, Body 4.5x2.4 mm, Pitch 1.5mm, Lead Span 4.2mm, IPC Medium Density)
footprint SOT-89-MT5_L (SOT89, 5-Leads, Body 4.5x2.4 mm, Pitch 1.5mm, Lead Span 4.2mm, IPC High Density)
footprint SOT-89-MT5_M (SOT89, 5-Leads, Body 4.5x2.4 mm, Pitch 1.5mm, Lead Span 4.2mm, IPC Low Density)
pins: 1 VOUT (power), 2 GND (power), 3 ~{SHDN} (in), 4 NC, 5 VIN (power)

## MCP1804T-2502I/OT
designator U?
150 mA, 28V LDO Regulator With Shutdown, 5-Pin SOT-23, Industrial Temperature, Tape and Reel; Manufacturer: Microchip; PartNumber: MCP1804T-2502I/OT; DatasheetVersion: revB, Nov-2009; PackageVersion: revBB, Aug-2009; PackageReference: SOT-23-OT5; PackageDescription: 5-Lead Plastic Small Outline Transistor (OT) [SOT-23]; Supplier 1: Digi-Key; Supplier Part Number 1: MCP1804T-2502I/OTTR-ND; Supplier 2: Digi-Key; Supplier Part Number 2: MCP1804T-2502I/OTCT-ND; Supplier 3: Digi-Key; Supplier Part Number 3: MCP1804T-2502I/OTDKR-ND; Supplier 4: Farnell; Supplier Part Number 4: 1825004; Supplier 5: Newark; Supplier Part Number 5: 55R1045; Supplier 6: Mouser; Supplier Part Number 6: 579-MCP1804T-2502IOT; Mounting Technology: Surface Mount; Code_IPC: SOT23-5; ComponentLink1Description: Manufacturer URL; ComponentLink1URL: http://www.microchip.com/; ComponentLink2Description: Datasheet; ComponentLink2URL: http://ww1.microchip.com/downloads/en/DeviceDoc/22200b.pdf; ComponentLink3Description: Package Specification; ComponentLink3URL: http://www.microchip.com/stellent/groups/techpub_sg/documents/packagingspec/en012702.pdf
footprint SOT-23-OT5_N (SOT23, 5-Leads, Body 2.9x1.6mm, Pitch 0.95mm, Lead Span 2.7mm, IPC Medium Density)
footprint SOT-23-OT5_L (SOT23, 5-Leads, Body 2.9x1.6mm, Pitch 0.95mm, Lead Span 2.7mm, IPC High Density)
footprint SOT-23-OT5_M (SOT23, 5-Leads, Body 2.9x1.6mm, Pitch 0.95mm, Lead Span 2.7mm, IPC Low Density)
pins: 1 VIN (power), 2 GND (power), 3 NC, 4 ~{SHDN} (in), 5 VOUT (power)

## MCP1804T-3002I/DB
designator U?
150 mA, 28V LDO Regulator With Shutdown, 3-Pin SOT-223, Industrial Temperature, Tape and Reel; Manufacturer: Microchip; PartNumber: MCP1804T-3002I/DB; DatasheetVersion: revB, Nov-2009; PackageVersion: revBB, Aug-2009; PackageReference: SOT-223-DB3; PackageDescription: 3-Lead Plastic Small Outline Transistor (DB) [SOT-223]; Supplier 1: Digi-Key; Supplier Part Number 1: MCP1804T-3002I/DBTR-ND; Supplier 2: Digi-Key; Supplier Part Number 2: MCP1804T-3002I/DBCT-ND; Supplier 3: Digi-Key; Supplier Part Number 3: MCP1804T-3002I/DBDKR-ND; Supplier 4: Mouser; Supplier Part Number 4: 579-MCP1804T-3002IDB; Mounting Technology: Surface Mount; ComponentLink1Description: Manufacturer URL; ComponentLink1URL: http://www.microchip.com/; ComponentLink2Description: Datasheet; ComponentLink2URL: http://ww1.microchip.com/downloads/en/DeviceDoc/22200b.pdf; ComponentLink3Description: Package Specification; ComponentLink3URL: http://www.microchip.com/stellent/groups/techpub_sg/documents/packagingspec/en012702.pdf
footprint SOT-223-DB3_N (SOT223, 4-Leads, Body 6.5x3.5mm, Pitch 2.3mm, Lead Span 7mm, IPC Medium Density)
footprint SOT-223-DB3_L (SOT223, 4-Leads, Body 6.5x3.5mm, Pitch 2.3mm, Lead Span 7mm, IPC High Density)
footprint SOT-223-DB3_M (SOT223, 4-Leads, Body 6.5x3.5mm, Pitch 2.3mm, Lead Span 7mm, IPC Low Density)
pins: 1 VOUT (power), 2 GND (power), 3 VIN (power), 4 TAB (power)

## MCP1804T-3002I/MB
designator U?
150 mA, 28V LDO Regulator With Shutdown, 3-Pin SOT-89, Industrial Temperature, Tape and Reel; Manufacturer: Microchip; PartNumber: MCP1804T-3002I/MB; DatasheetVersion: revB, Nov-2009; PackageVersion: revBB, Aug-2009; PackageReference: SOT-89-MB3; PackageDescription: 3-Lead Plastic Small Outline Transistor Header (MB) [SOT-89]; Supplier 1: Digi-Key; Supplier Part Number 1: MCP1804T-3002I/MBTR-ND; Supplier 2: Digi-Key; Supplier Part Number 2: MCP1804T-3002I/MBCT-ND; Supplier 3: Digi-Key; Supplier Part Number 3: MCP1804T-3002I/MBDKR-ND; Supplier 4: Mouser; Supplier Part Number 4: 579-MCP1804T-3002IMB; Mounting Technology: Surface Mount; Code_IPC: SOT89; ComponentLink1Description: Manufacturer URL; ComponentLink1URL: http://www.microchip.com/; ComponentLink2Description: Datasheet; ComponentLink2URL: http://ww1.microchip.com/downloads/en/DeviceDoc/22200b.pdf; ComponentLink3Description: Package Specification; ComponentLink3URL: http://www.microchip.com/stellent/groups/techpub_sg/documents/packagingspec/en012702.pdf
footprint SOT-89-MB3_N (SOT89, 3-Leads, Body 4.5x2.4 mm, Pitch 1.5mm, Lead Span 4.1mm, IPC Medium Density)
footprint SOT-89-MB3_L (SOT89, 3-Leads, Body 4.5x2.4 mm, Pitch 1.5mm, Lead Span 4.1mm, IPC High Density)
footprint SOT-89-MB3_M (SOT89, 3-Leads, Body 4.5x2.4 mm, Pitch 1.5mm, Lead Span 4.1mm, IPC Low Density)
pins: 1 VOUT (power), 2 VSS (power), 3 VIN (power)

## MCP1804T-3002I/MT
designator U?
150 mA, 28V LDO Regulator With Shutdown, 5-Pin SOT-89, Industrial Temperature, Tape and Reel; Manufacturer: Microchip; PartNumber: MCP1804T-3002I/MT; DatasheetVersion: revB, Nov-2009; PackageVersion: revBB, Aug-2009; PackageReference: SOT-89-MT5; PackageDescription: 5-Lead Plastic Small Outline Transistor Header (MT) [SOT-89]; Supplier 1: Digi-Key; Supplier Part Number 1: MCP1804T-3002I/MTTR-ND; Supplier 2: Digi-Key; Supplier Part Number 2: MCP1804T-3002I/MTCT-ND; Supplier 3: Digi-Key; Supplier Part Number 3: MCP1804T-3002I/MTDKR-ND; Supplier 4: Mouser; Supplier Part Number 4: 579-MCP1804T-3002IMT; Mounting Technology: Surface Mount; ComponentLink1Description: Manufacturer URL; ComponentLink1URL: http://www.microchip.com/; ComponentLink2Description: Datasheet; ComponentLink2URL: http://ww1.microchip.com/downloads/en/DeviceDoc/22200b.pdf; ComponentLink3Description: Package Specification; ComponentLink3URL: http://www.microchip.com/stellent/groups/techpub_sg/documents/packagingspec/en012702.pdf
footprint SOT-89-MT5_N (SOT89, 5-Leads, Body 4.5x2.4 mm, Pitch 1.5mm, Lead Span 4.2mm, IPC Medium Density)
footprint SOT-89-MT5_L (SOT89, 5-Leads, Body 4.5x2.4 mm, Pitch 1.5mm, Lead Span 4.2mm, IPC High Density)
footprint SOT-89-MT5_M (SOT89, 5-Leads, Body 4.5x2.4 mm, Pitch 1.5mm, Lead Span 4.2mm, IPC Low Density)
pins: 1 VOUT (power), 2 GND (power), 3 ~{SHDN} (in), 4 NC, 5 VIN (power)

## MCP1804T-3002I/OT
designator U?
150 mA, 28V LDO Regulator With Shutdown, 5-Pin SOT-23, Industrial Temperature, Tape and Reel; Manufacturer: Microchip; PartNumber: MCP1804T-3002I/OT; DatasheetVersion: revB, Nov-2009; PackageVersion: revBB, Aug-2009; PackageReference: SOT-23-OT5; PackageDescription: 5-Lead Plastic Small Outline Transistor (OT) [SOT-23]; Supplier 1: Digi-Key; Supplier Part Number 1: MCP1804T-3002I/OTTR-ND; Supplier 2: Digi-Key; Supplier Part Number 2: MCP1804T-3002I/OTCT-ND; Supplier 3: Digi-Key; Supplier Part Number 3: MCP1804T-3002I/OTDKR-ND; Supplier 4: Farnell; Supplier Part Number 4: 1825005; Supplier 5: Newark; Supplier Part Number 5: 55R1046; Supplier 6: Mouser; Supplier Part Number 6: 579-MCP1804T-3002IOT; Mounting Technology: Surface Mount; Code_IPC: SOT23-5; ComponentLink1Description: Manufacturer URL; ComponentLink1URL: http://www.microchip.com/; ComponentLink2Description: Datasheet; ComponentLink2URL: http://ww1.microchip.com/downloads/en/DeviceDoc/22200b.pdf; ComponentLink3Description: Package Specification; ComponentLink3URL: http://www.microchip.com/stellent/groups/techpub_sg/documents/packagingspec/en012702.pdf
footprint SOT-23-OT5_N (SOT23, 5-Leads, Body 2.9x1.6mm, Pitch 0.95mm, Lead Span 2.7mm, IPC Medium Density)
footprint SOT-23-OT5_L (SOT23, 5-Leads, Body 2.9x1.6mm, Pitch 0.95mm, Lead Span 2.7mm, IPC High Density)
footprint SOT-23-OT5_M (SOT23, 5-Leads, Body 2.9x1.6mm, Pitch 0.95mm, Lead Span 2.7mm, IPC Low Density)
pins: 1 VIN (power), 2 GND (power), 3 NC, 4 ~{SHDN} (in), 5 VOUT (power)

## MCP1804T-3302I/DB
designator U?
150 mA, 28V LDO Regulator With Shutdown, 3-Pin SOT-223, Industrial Temperature, Tape and Reel; Manufacturer: Microchip; PartNumber: MCP1804T-3302I/DB; DatasheetVersion: revB, Nov-2009; PackageVersion: revBB, Aug-2009; PackageReference: SOT-223-DB3; PackageDescription: 3-Lead Plastic Small Outline Transistor (DB) [SOT-223]; Supplier 1: Digi-Key; Supplier Part Number 1: MCP1804T-3302I/DBTR-ND; Supplier 2: Digi-Key; Supplier Part Number 2: MCP1804T-3302I/DBCT-ND; Supplier 3: Digi-Key; Supplier Part Number 3: MCP1804T-3302I/DBDKR-ND; Supplier 4: Newark; Supplier Part Number 4: 52R9935; Supplier 5: Mouser; Supplier Part Number 5: 579-MCP1804T-3302IDB; Mounting Technology: Surface Mount; ComponentLink1Description: Manufacturer URL; ComponentLink1URL: http://www.microchip.com/; ComponentLink2Description: Datasheet; ComponentLink2URL: http://ww1.microchip.com/downloads/en/DeviceDoc/22200b.pdf; ComponentLink3Description: Package Specification; ComponentLink3URL: http://www.microchip.com/stellent/groups/techpub_sg/documents/packagingspec/en012702.pdf
footprint SOT-223-DB3_N (SOT223, 4-Leads, Body 6.5x3.5mm, Pitch 2.3mm, Lead Span 7mm, IPC Medium Density)
footprint SOT-223-DB3_L (SOT223, 4-Leads, Body 6.5x3.5mm, Pitch 2.3mm, Lead Span 7mm, IPC High Density)
footprint SOT-223-DB3_M (SOT223, 4-Leads, Body 6.5x3.5mm, Pitch 2.3mm, Lead Span 7mm, IPC Low Density)
pins: 1 VOUT (power), 2 GND (power), 3 VIN (power), 4 TAB (power)

## MCP1804T-3302I/MB
designator U?
150 mA, 28V LDO Regulator With Shutdown, 3-Pin SOT-89, Industrial Temperature, Tape and Reel; Manufacturer: Microchip; PartNumber: MCP1804T-3302I/MB; DatasheetVersion: revB, Nov-2009; PackageVersion: revBB, Aug-2009; PackageReference: SOT-89-MB3; PackageDescription: 3-Lead Plastic Small Outline Transistor Header (MB) [SOT-89]; Supplier 1: Digi-Key; Supplier Part Number 1: MCP1804T-3302I/MBTR-ND; Supplier 2: Digi-Key; Supplier Part Number 2: MCP1804T-3302I/MBCT-ND; Supplier 3: Digi-Key; Supplier Part Number 3: MCP1804T-3302I/MBDKR-ND; Supplier 4: Newark; Supplier Part Number 4: 52R9936; Supplier 5: Mouser; Supplier Part Number 5: 579-MCP1804T-3302IMB; Mounting Technology: Surface Mount; Code_IPC: SOT89; ComponentLink1Description: Manufacturer URL; ComponentLink1URL: http://www.microchip.com/; ComponentLink2Description: Datasheet; ComponentLink2URL: http://ww1.microchip.com/downloads/en/DeviceDoc/22200b.pdf; ComponentLink3Description: Package Specification; ComponentLink3URL: http://www.microchip.com/stellent/groups/techpub_sg/documents/packagingspec/en012702.pdf
footprint SOT-89-MB3_N (SOT89, 3-Leads, Body 4.5x2.4 mm, Pitch 1.5mm, Lead Span 4.1mm, IPC Medium Density)
footprint SOT-89-MB3_L (SOT89, 3-Leads, Body 4.5x2.4 mm, Pitch 1.5mm, Lead Span 4.1mm, IPC High Density)
footprint SOT-89-MB3_M (SOT89, 3-Leads, Body 4.5x2.4 mm, Pitch 1.5mm, Lead Span 4.1mm, IPC Low Density)
pins: 1 VOUT (power), 2 VSS (power), 3 VIN (power)

## MCP1804T-3302I/MT
designator U?
150 mA, 28V LDO Regulator With Shutdown, 5-Pin SOT-89, Industrial Temperature, Tape and Reel; Manufacturer: Microchip; PartNumber: MCP1804T-3302I/MT; DatasheetVersion: revB, Nov-2009; PackageVersion: revBB, Aug-2009; PackageReference: SOT-89-MT5; PackageDescription: 5-Lead Plastic Small Outline Transistor Header (MT) [SOT-89]; Supplier 1: Digi-Key; Supplier Part Number 1: MCP1804T-3302I/MTTR-ND; Supplier 2: Digi-Key; Supplier Part Number 2: MCP1804T-3302I/MTCT-ND; Supplier 3: Digi-Key; Supplier Part Number 3: MCP1804T-3302I/MTDKR-ND; Supplier 4: Mouser; Supplier Part Number 4: 579-MCP1804T-3302IMT; Mounting Technology: Surface Mount; ComponentLink1Description: Manufacturer URL; ComponentLink1URL: http://www.microchip.com/; ComponentLink2Description: Datasheet; ComponentLink2URL: http://ww1.microchip.com/downloads/en/DeviceDoc/22200b.pdf; ComponentLink3Description: Package Specification; ComponentLink3URL: http://www.microchip.com/stellent/groups/techpub_sg/documents/packagingspec/en012702.pdf
footprint SOT-89-MT5_N (SOT89, 5-Leads, Body 4.5x2.4 mm, Pitch 1.5mm, Lead Span 4.2mm, IPC Medium Density)
footprint SOT-89-MT5_L (SOT89, 5-Leads, Body 4.5x2.4 mm, Pitch 1.5mm, Lead Span 4.2mm, IPC High Density)
footprint SOT-89-MT5_M (SOT89, 5-Leads, Body 4.5x2.4 mm, Pitch 1.5mm, Lead Span 4.2mm, IPC Low Density)
pins: 1 VOUT (power), 2 GND (power), 3 ~{SHDN} (in), 4 NC, 5 VIN (power)

## MCP1804T-3302I/OT
designator U?
150 mA, 28V LDO Regulator With Shutdown, 5-Pin SOT-23, Industrial Temperature, Tape and Reel; Manufacturer: Microchip; PartNumber: MCP1804T-3302I/OT; DatasheetVersion: revB, Nov-2009; PackageVersion: revBB, Aug-2009; PackageReference: SOT-23-OT5; PackageDescription: 5-Lead Plastic Small Outline Transistor (OT) [SOT-23]; Supplier 1: Digi-Key; Supplier Part Number 1: MCP1804T-3302I/OTTR-ND; Supplier 2: Digi-Key; Supplier Part Number 2: MCP1804T-3302I/OTCT-ND; Supplier 3: Digi-Key; Supplier Part Number 3: MCP1804T-3302I/OTDKR-ND; Supplier 4: Farnell; Supplier Part Number 4: 1825006; Supplier 5: Newark; Supplier Part Number 5: 55R1047; Supplier 6: Newark; Supplier Part Number 6: 52R9938; Supplier 7: Mouser; Supplier Part Number 7: 579-MCP1804T-3302IOT; Mounting Technology: Surface Mount; Code_IPC: SOT23-5; ComponentLink1Description: Manufacturer URL; ComponentLink1URL: http://www.microchip.com/; ComponentLink2Description: Datasheet; ComponentLink2URL: http://ww1.microchip.com/downloads/en/DeviceDoc/22200b.pdf; ComponentLink3Description: Package Specification; ComponentLink3URL: http://www.microchip.com/stellent/groups/techpub_sg/documents/packagingspec/en012702.pdf
footprint SOT-23-OT5_N (SOT23, 5-Leads, Body 2.9x1.6mm, Pitch 0.95mm, Lead Span 2.7mm, IPC Medium Density)
footprint SOT-23-OT5_L (SOT23, 5-Leads, Body 2.9x1.6mm, Pitch 0.95mm, Lead Span 2.7mm, IPC High Density)
footprint SOT-23-OT5_M (SOT23, 5-Leads, Body 2.9x1.6mm, Pitch 0.95mm, Lead Span 2.7mm, IPC Low Density)
pins: 1 VIN (power), 2 GND (power), 3 NC, 4 ~{SHDN} (in), 5 VOUT (power)